# EAGLE library part AD8275BRMZ (library Hexabitz)
G = 0.2, Level Translation, 16-Bit ADC Driver
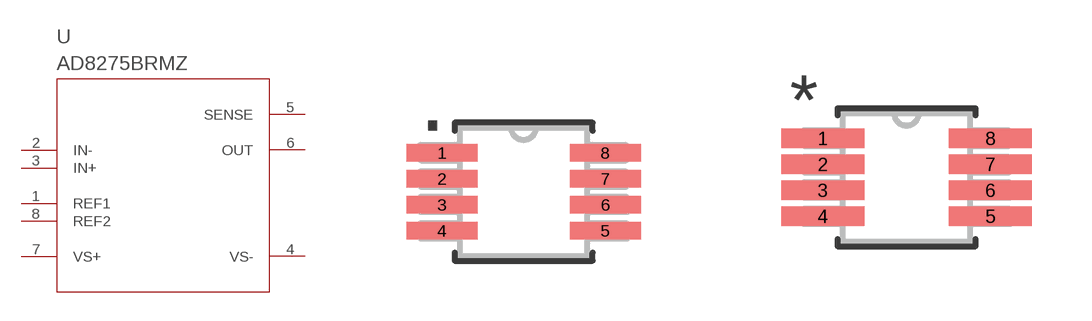
[diagram p16: symbol with the pads of RM_8; footprints RM_8, RM_8-M]

Designator prefix U

## AD8275BRMZ (MANUFACTURER_PART_NUMBER: AD8275BRMZ; MFN: Analog Devices; MPN: AD8275BRMZ; OCTOPART_URL: https://octopart.com/ad8275brmz-analog+devices-9563519?r=sp&s=G6FwvkoJRIKGm_UpidKVeA; VENDOR: Vendor)  [RM_8]
1  REF1  pas
2  IN-  pas
3  IN+  pas
4  VS-  pwr
5  SENSE  pas
6  OUT  pas
7  VS+  pwr
8  REF2  pas

## AD8275BRMZRM_8-M (MANUFACTURER_PART_NUMBER: AD8275BRMZ; MFN: Analog Devices; MPN: AD8275BRMZ; OCTOPART_URL: https://octopart.com/ad8275brmz-analog+devices-9563519?r=sp&s=ycrno6OQQRO71z71qPm_0g; VENDOR: Vendor)  [RM_8-M]
Pads as for RM_8

## AD8275BRMZRM_8-L (MANUFACTURER_PART_NUMBER: AD8275BRMZ; VENDOR: Vendor)  [RM_8-L]
Pads as for RM_8

## Footprint RM_8 (pad centres in mm)
smd 1.778 x 0.432: 1 -2.045,0.975; 2 -2.045,0.325; 3 -2.045,-0.325; 4 -2.045,-0.975; 5 2.045,-0.975; 6 2.045,-0.325; 7 2.045,0.325; 8 2.045,0.975

## Footprint RM_8-M (pad centres in mm)
smd 2.083 x 0.483: 1 -2.095,0.975; 2 -2.095,0.325; 3 -2.095,-0.325; 4 -2.095,-0.975; 5 2.095,-0.975; 6 2.095,-0.325; 7 2.095,0.325; 8 2.095,0.975

## Footprint RM_8-L (pad centres in mm)
smd 1.473 x 0.381: 1 -1.994,0.975; 2 -1.994,0.325; 3 -1.994,-0.325; 4 -1.994,-0.975; 5 1.994,-0.975; 6 1.994,-0.325; 7 1.994,0.325; 8 1.994,0.975